# EAGLE library part SI4431BDY-T1-E3 (library charging)
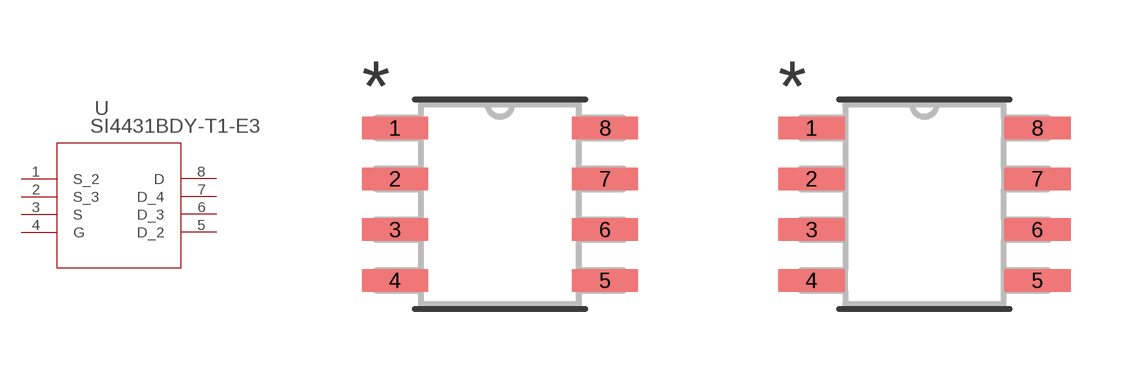
[diagram p3: symbol with the pads of SOIC-8_SI; footprints SOIC-8_SI, SOIC-8_SI-M]

Designator prefix U

## SI4431BDY-T1-E3 (COPYRIGHT: Copyright (C) 2021 Ultra Librarian. All rights reserved.; DIGI-KEY_PART_NUMBER_1: SI4431BDY-T1-E3CT-ND; DIGI-KEY_PART_NUMBER_2: SI4431BDY-T1-E3DKR-ND; DIGI-KEY_PART_NUMBER_3: SI4431BDY-T1-E3TR-ND; MANUFACTURER_PART_NUMBER: SI4431BDY-T1-E3; MFR_NAME: Vishay)  [SOIC-8_SI]
1  S_2  pas
2  S_3  pas
3  S  pas
4  G  pas
5  D_2  pas
6  D_3  pas
7  D_4  pas
8  D  pas

## SI4431BDY-T1-E3SOIC-8_SI-M (COPYRIGHT: Copyright (C) 2021 Ultra Librarian. All rights reserved.; DIGI-KEY_PART_NUMBER_1: SI4431BDY-T1-E3CT-ND; DIGI-KEY_PART_NUMBER_2: SI4431BDY-T1-E3DKR-ND; DIGI-KEY_PART_NUMBER_3: SI4431BDY-T1-E3TR-ND; MANUFACTURER_PART_NUMBER: SI4431BDY-T1-E3; MFR_NAME: Vishay)  [SOIC-8_SI-M]
Pads as for SOIC-8_SI

## SI4431BDY-T1-E3SOIC-8_SI-L (COPYRIGHT: Copyright (C) 2021 Ultra Librarian. All rights reserved.; DIGI-KEY_PART_NUMBER_1: SI4431BDY-T1-E3CT-ND; DIGI-KEY_PART_NUMBER_2: SI4431BDY-T1-E3DKR-ND; DIGI-KEY_PART_NUMBER_3: SI4431BDY-T1-E3TR-ND; MANUFACTURER_PART_NUMBER: SI4431BDY-T1-E3; MFR_NAME: Vishay)  [SOIC-8_SI-L]
Pads as for SOIC-8_SI

## Footprint SOIC-8_SI (pad centres in mm)
smd 1.651 x 0.559: 1 -2.629,1.905; 2 -2.629,0.635; 3 -2.629,-0.635; 4 -2.629,-1.905; 5 2.629,-1.905; 6 2.629,-0.635; 7 2.629,0.635; 8 2.629,1.905

## Footprint SOIC-8_SI-M (pad centres in mm)
smd 1.664 x 0.559: 1 -2.826,1.905; 2 -2.826,0.635; 3 -2.826,-0.635; 4 -2.826,-1.905; 5 2.826,-1.905; 6 2.826,-0.635; 7 2.826,0.635; 8 2.826,1.905

## Footprint SOIC-8_SI-L (pad centres in mm)
smd 1.257 x 0.508: 1 -2.623,1.905; 2 -2.623,0.635; 3 -2.623,-0.635; 4 -2.623,-1.905; 5 2.623,-1.905; 6 2.623,-0.635; 7 2.623,0.635; 8 2.623,1.905